# Altium schematic symbol library clever_watch.SchLib: 27 symbols
Pins are listed as number, name and electrical type; pins without a type are passive.

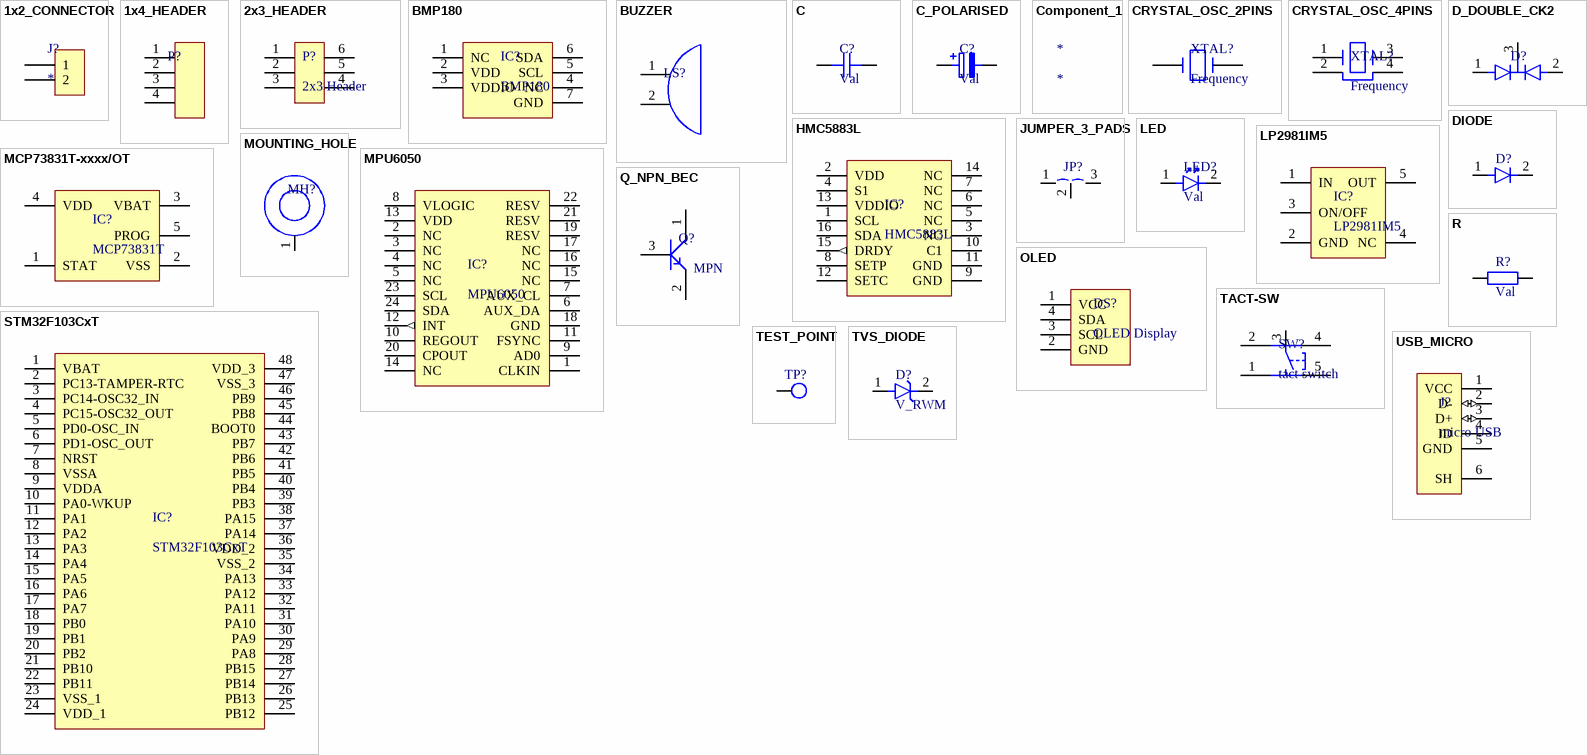
[diagram p0: symbols 1x2_CONNECTOR to USB_MICRO]

## 1x2_CONNECTOR
designator J?  (no BOM)
footprint battery connector
footprint HDR_1X2_MALE (Connector; Header; 2 Position)
pins: 1, 2

## 1x4_HEADER
designator P?  (value not drawn)
MPN: DS1022-1*4RDF14; ComponentLink1Description: Link; ComponentLink1URL: https://www.tme.eu/pl/details/ds1022-1x4rdf14/listwy-i-gniazda-kolkowe/connfly/ds1022-1-4rdf14/
footprint CONN_15-91-2045_MOL
pins: 1, 2, 3, 4

## 2x3_HEADER
designator P?, comment 2x3 Header
ComponentLink1Description: Link; ComponentLink1URL: *; MPN: *
footprint 95278801A06LF
pins: 1, 2, 3, 4, 5, 6

## BMP180
designator IC?
MPN: BMP180; ComponentLink1Description: Link; ComponentLink1URL: https://cdn-shop.adafruit.com/datasheets/BST-BMP180-DS000-09.pdf
footprint BMP180
pins: 1 NC, 2 VDD (power), 3 VDDIO (power), 4 NC, 5 SCL (oc), 6 SDA (oc), 7 GND (power)

## BUZZER
designator LS?  (value not drawn)
ComponentLink1Description: Link; ComponentLink1URL: *; MPN: *
footprint HDR_1X2_MALE (Connector; Header; 2 Position)
footprint HDR_1X2_MALE_SMD (Connector; Header; 2 Position)
pins: 1, 2

## C
designator C?, comment Val
ComponentLink1Description: Link; ComponentLink1URL: *; MPN: *
footprint C0402
footprint C0603
pins: 1, 2

## C_POLARISED
designator C?, comment Val
ComponentLink1Description: Link; ComponentLink1URL: *; MPN: *
pins: 1 +, 2 -

## Component_1
designator *

## CRYSTAL_OSC_2PINS
designator XTAL?, comment Frequency
MPN: ABS07-32.768KHZ-7-T; ComponentLink1Description: Link; ComponentLink1URL: https://www.tme.eu/pl/details/abs07-32.768khz-7/rezonatory-kwarcowe-smd/abracon/abs07-32-768khz-7-t/
footprint ABS0732768KHZ7T
pins: 1, 2

## CRYSTAL_OSC_4PINS
designator XTAL?, comment Frequency
MPN: ABM3B-8.000MHZ-B2-T; ComponentLink1Description: Link; ComponentLink1URL: https://www.tme.eu/pl/details/abm3b-8.000mhz-b2/rezonatory-kwarcowe-smd/abracon/abm3b-8-000mhz-b2-t/
footprint SMD04_ABM3B_5X3P2_ABR
pins: 1, 2, 3, 4

## D_DOUBLE_CK2
designator D?  (value not drawn)
MPN: 1PS70SB85.115; ComponentLink1Description: Link; ComponentLink1URL: https://www.tme.eu/en/details/1ps70sb85.115/smd-schottky-diodes/nexperia/
footprint SOT65P210X110-3N
pins: 1 A1, 2 A2, 3 K

## DIODE
designator D?  (value not drawn)
MPN: *; ComponentLink1Description: Link; ComponentLink1URL: *
pins: 1 A, 2 K

## HMC5883L
designator IC?
ComponentLink1Description: Link; ComponentLink1URL: https://cdn-shop.adafruit.com/datasheets/HMC5883L_3-Axis_Digital_Compass_IC.pdf; MPN: HMC5883L
footprint LPCC16_HNW
pins: 1 SCL (oc), 2 VDD (power), 3 NC, 4 S1, 5 NC, 6 NC, 7 NC, 8 SETP, 9 GND (power), 10 C1, 11 GND (power), 12 SETC, 13 VDDIO (power), 14 NC, 15 DRDY (out), 16 SDA (oc)

## JUMPER_3_PADS
designator JP?
footprint 0402 jumper x3
pins: 1, 2, 3

## LED
designator LED?, comment Val
footprint LED_0603
pins: 1 Anode, 2 Cathode

## LP2981IM5
designator IC?
MPN: LP2981IM5-3.3/NOPB; ComponentLink1Description: Link; ComponentLink1URL: https://www.tme.eu/en/details/lp2981im5-3.3_nopb/ldo-unregulated-voltage-regulators/texas-instruments/
footprint SOT-23-5_MC_MCH
pins: 1 IN (power), 2 GND (power), 3 ON/OFF, 4 NC, 5 OUT (power)

## MCP73831T-xxxx/OT
designator IC?, comment MCP73831T
MPN: MCP73831T-2ACI/OT; ComponentLink1Description: Link; ComponentLink1URL: https://www.tme.eu/en/details/mcp73831t-2aci_ot/battery-and-battery-cells-controllers/microchip-technology/
footprint SOT-23-5_MC_MCH
pins: 1 STAT, 2 VSS (power), 3 VBAT (power), 4 VDD (power), 5 PROG

## MOUNTING_HOLE
designator MH?  (value not drawn)  (no BOM)
footprint M20 HOLE
pins: 1

## MPU6050
designator IC?
MPN: MPU6050; ComponentLink1Description: Link; ComponentLink1URL: https://product.tdk.com/system/files/dam/doc/product/sensor/mortion-inertial/imu/data_sheet/mpu-6000-datasheet1.pdf
footprint QFN24_4X4X0P9_IVS
pins: 1 CLKIN, 2 NC, 3 NC, 4 NC, 5 NC, 6 AUX_DA (oc), 7 AUX_CL (oc), 8 VLOGIC (power), 9 AD0, 10 REGOUT, 11 FSYNC, 12 INT (out), 13 VDD (power), 14 NC, 15 NC, 16 NC, 17 NC, 18 GND (power), 19 RESV, 20 CPOUT, 21 RESV, 22 RESV, 23 SCL (oc), 24 SDA (oc)

## OLED
designator DS?, comment OLED Display
MPN: OLED-SSD1306; ComponentLink1Description: Link; ComponentLink1URL: https://cdn-shop.adafruit.com/datasheets/SSD1306.pdf
footprint OLED SSD1306
footprint HDR_1X4_MALE (Connector; Header; 4 Position)
pins: 1 VCC (power), 2 GND (power), 3 SCL (oc), 4 SDA (oc)

## Q_NPN_BEC
designator Q?  (value not drawn)
ComponentLink1Description: Link; ComponentLink1URL: *; MPN: MPN
footprint SOT-23
pins: 1 C, 2 E, 3 B

## R
designator R?, comment Val
ComponentLink1Description: Link; ComponentLink1URL: *; MPN: *
footprint R0402
pins: 1, 2

## STM32F103CxT
designator IC?
MPN: STM32F103C8T6; ComponentLink1Description: Link; ComponentLink1URL: *
footprint LQFP48-7x7mm
pins: 1 VBAT (power), 2 PC13-TAMPER-RTC, 3 PC14-OSC32_IN, 4 PC15-OSC32_OUT, 5 PD0-OSC_IN, 6 PD1-OSC_OUT, 7 NRST, 8 VSSA (power), 9 VDDA (power), 10 PA0-WKUP, 11 PA1, 12 PA2, 13 PA3, 14 PA4, 15 PA5, 16 PA6, 17 PA7, 18 PB0, 19 PB1, 20 PB2, 21 PB10, 22 PB11, 23 VSS_1 (power), 24 VDD_1 (power), 25 PB12, 26 PB13, 27 PB14, 28 PB15, 29 PA8, 30 PA9, 31 PA10, 32 PA11, 33 PA12, 34 PA13, 35 VSS_2 (power), 36 VDD_2 (power), 37 PA14, 38 PA15, 39 PB3, 40 PB4, 41 PB5, 42 PB6, 43 PB7, 44 BOOT0, 45 PB8, 46 PB9, 47 VSS_3 (power), 48 VDD_3 (power)

## TACT-SW
designator SW?, comment tact switch
ComponentLink1Description: Link; ComponentLink1URL: *; MPN: *
footprint KMS221GLFS
pins: 1, 2, 3, 4, 5

## TEST_POINT
designator TP?  (value not drawn)  (no BOM)
footprint Testpoint
pins: 1

## TVS_DIODE
designator D?, comment V_RWM
ComponentLink1Description: Link; ComponentLink1URL: *; MPN: *
footprint SOD-323FL_477AB_ONS
pins: 1 A, 2 K

## USB_MICRO
designator J?, comment micro USB
MPN: 10118194-0001LF; ComponentLink1Description: Link; ComponentLink1URL: https://www.tme.eu/en/details/10118194-0001lf_c/usb-ieee1394-connectors/amphenol-communications-solutions/10118194-0001lf/
footprint AMPHENOL_10118194-0001LF
pins: 1 VCC (power), 2 D- (io), 3 D+ (io), 4 ID, 5 GND (power), 6 SH (power)